# Altium footprint library pcb-libs.PcbLib: 29 footprints (part 1 of 2)
Each footprint in its own frame and in the unit in brackets; x right, y up, seen from the top. Pads: shape width x height; smd on the part's side, far side on the other; paste and mask are expansions set on the pad; w line width, h text height; cw(c..) or ccw(c..) is an arc to the next point about the centre after c.
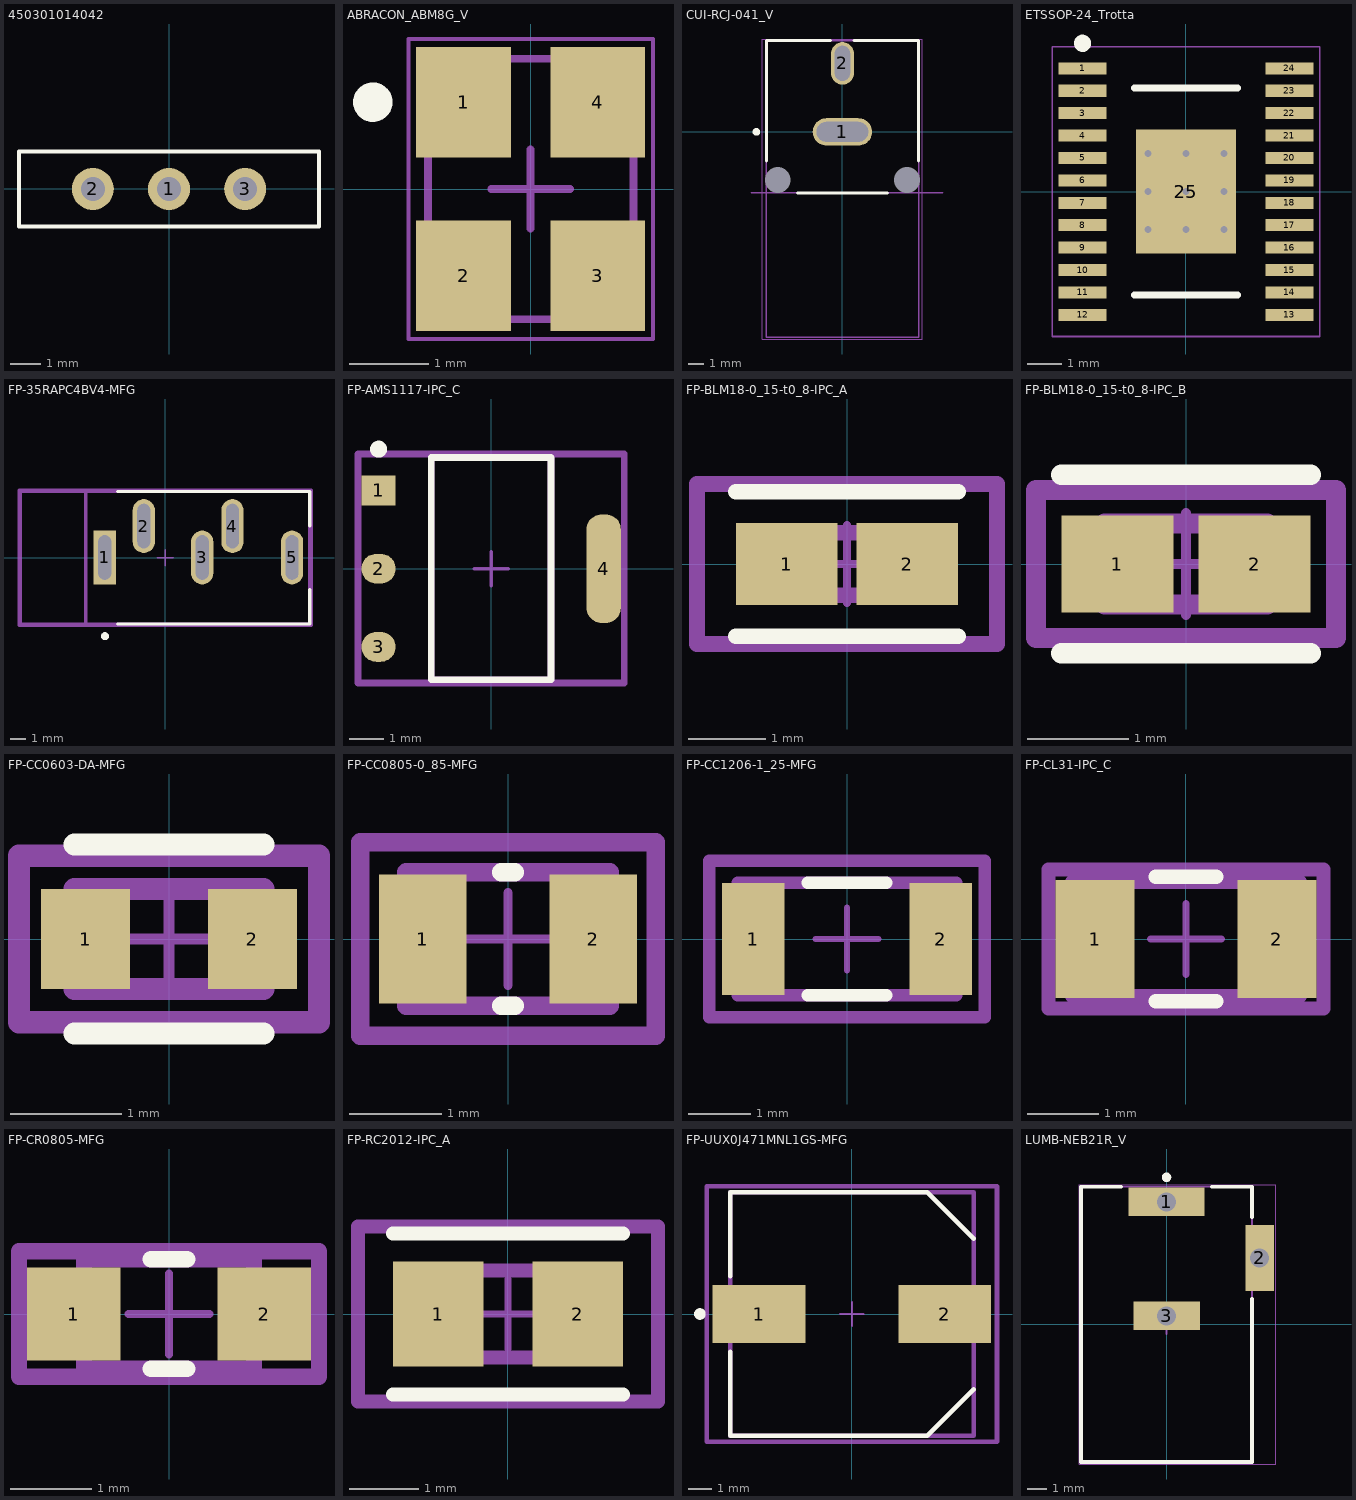
[diagram p0: the footprints below, top view; thin cyan lines are the x and y axes]

## 450301014042 [mm] "10mm*2.5mm. SPDT, ON-ON, 2.54mm, horizontal type, THT, bulk"
height 6.4
pads (3):
  round 1.4 hole 0.8: 1(0,0) 2(-2.54,0) 3(2.54,0)
Top Overlay:
  lines w0.127: -5,-1.25 -5,1.25 ; -5,-1.25 5,-1.25 ; -5,-1.25 -5,1.25 ; -5,-1.25 5,-1.25 ; -5,1.25 5,1.25 ; -5,1.25 5,1.25 ; 5,-1.25 5,1.25 ; 5,-1.25 5,1.25
3D body "450301014042.stp": height 6.4, standoff -5, extent -5,-1.25 5,1.25

## ABRACON_ABM8G_V [mm] "SMD, 4-Leads, Body 2.6x3.3mm"
height 1
pads (4):
  rect 1.2x1.4 smd: 1(-0.85,1.1) 2(-0.85,-1.1) 3(0.85,-1.1) 4(0.85,1.1)
Top Overlay:
  circle w0.25: c-2,1.1 r0.125
Top Assembly:
  circle w0.1: c-0.728,1.056 r0.261
Mechanical 13:
  lines w0.1: -1.3,-1.65 -1.3,1.65 1.3,1.65 1.3,-1.65 -1.3,-1.65
Mechanical 15:
  lines w0.05: -1.55,-1.9 1.55,-1.9 1.55,1.9 -1.55,1.9 -1.55,-1.9
  lines w0.1: -0.5,0 0.5,0 ; 0,-0.5 0,0.5
3D body: height 1, standoff 0, extent -1.299,-1.649 1.299,1.649
3D body: height 1.01, standoff 1, extent -0.98,0.919 -0.581,1.318

## CUI-RCJ-041_V [mm] "Jack, 2-Leads, Body 19.5x10mm"
height 11.724
pads (4):
  oval 3.9x1.8 hole 1.3 slot 3.4 at 0 deg: 1(0,0)
  oval 1.5x2.8 hole 1 slot 2.3 at 90 deg: 2(0,4.5)
  round 0 hole 1.7 square unplated: MH1(-4.25,-3.15) MH2(4.25,-3.15)
Top Overlay:
  circle w0.25: c-5.65,0 r0.125
  lines w0.2: -5,-1.9 -5,6 -0.775,6 ; -2.95,-4 2.95,-4 ; 0.775,6 5,6 5,-1.9
Mechanical 1:
  lines w0.1: -6,-4 6.6,-4
  text "PCB Edge" at 6,-3.8 h0.6
Mechanical 13:
  lines w0.1: -5,-13.5 -5,6 5,6 5,-13.5 -5,-13.5
Mechanical 15:
  lines w0.05: -5.25,-13.6 -5.25,6.1 5.25,6.1 5.25,-13.6 -5.25,-13.6
  lines w0.1: -0.5,0 0.5,0 ; 0,-0.5 0,0.5
3D body "rcj-041.stp": height 11.51, standoff -3.98, extent -5,-13.5 5,6

## ETSSOP-24_Trotta [mm]
height 1.1
pads (25):
  rect 1.4x0.35 smd: 1(-3,3.575) 2(-3,2.925) 3(-3,2.275) 4(-3,1.625) 5(-3,0.975) 6(-3,0.325) 7(-3,-0.325) 8(-3,-0.975) 9(-3,-1.625) 10(-3,-2.275) 11(-3,-2.925) 12(-3,-3.575) 13(3,-3.575) 14(3,-2.925) 15(3,-2.275) 16(3,-1.625) 17(3,-0.975) 18(3,-0.325) 19(3,0.325) 20(3,0.975) 21(3,1.625) 22(3,2.275) 23(3,2.925) 24(3,3.575)
  rect 2.9x3.6 smd: 25(0,0)
via 1.1,-1.1 diameter 0.5 hole 0.2
via 0,-1.1 diameter 0.5 hole 0.2
via -1.1,-1.1 diameter 0.5 hole 0.2
via 1.1,0 diameter 0.5 hole 0.2
via 0,0 diameter 0.5 hole 0.2
via -1.1,0 diameter 0.5 hole 0.2
via 1.1,1.1 diameter 0.5 hole 0.2
via 0,1.1 diameter 0.5 hole 0.2
via -1.1,1.1 diameter 0.5 hole 0.2
Top Overlay:
  circle w0.25: c-3,4.3 r0.125
  lines w0.2: -1.5,-3 1.5,-3 ; -1.5,3 1.5,3
Mechanical 15:
  lines w0.05: -3.875,-4.2 3.875,-4.2 3.875,4.2 -3.875,4.2 -3.875,-4.2
  lines w0.1: -0.5,0 0.5,0 ; 0,-0.5 0,0.5
3D body "User Library-AD8400 TSSOP.step": height 1.15, standoff -0.03, extent -3.204,-3.95 3.203,3.94

## FP-35RAPC4BV4-MFG [mm]
pads (5):
  rect 1.4x3.4 hole 2.8 slot 0.8 at 0 deg paste-1000 mask+0: 1(-3.81,0.013)
  rrect100% 1.4x3.4 hole 2.8 slot 0.8 at 0 deg paste-1000 mask+0: 2(-1.346,1.994) 3(2.337,0.013) 4(4.242,1.994) 5(8.001,0.013)
Top Overlay:
  circle w0.25: c-3.8,-4.95 r0.125
  lines w0.2: -3,-4.178 9.119,-4.178 9.119,-2 ; -3,4.178 9.119,4.178 9.119,2
Top 3D Body:
  lines w0.2: -5.004,-4.278 -5.004,4.278 ; -9.119,-4.178 -9.119,4.178 9.119,4.178 9.119,-4.178 -9.119,-4.178
Top Courtyard:
  lines w0.2: -9.219,-4.278 -9.219,4.278 9.219,4.278 9.219,-4.278 -9.219,-4.278
Top Assembly:
  lines w0.2: -9.219,-4.278 -9.219,4.278 9.219,4.278 9.219,-4.278 -9.219,-4.278
  text ".Designator" at 0,0.188 h1
Top Component Center:
  lines w0.1: -0.5,0 0.5,0 ; 0,-0.5 0,0.5
3D body "Conn_Switchcraft_35RAPC4BV4_eec.STEP": height 0.25, standoff 0, extent -9.219,-4.278 9.219,4.278

## FP-AMS1117-IPC_C [mm]
pads (4):
  rect 1.004x0.872 smd paste+0 mask+0: 1(-3.295,2.29)
  rrect100% 1.004x0.872 smd paste+0 mask+0: 2(-3.295,0) 3(-3.295,-2.29)
  rrect87% 1.004x3.182 smd paste+0 mask+0: 4(3.295,0)
Top Overlay:
  circle w0.25: c-3.295,3.5 r0.125
  lines w0.2: -1.753,-3.253 -1.753,3.253 1.753,3.253 1.753,-3.253 -1.753,-3.253
Top 3D Body:
  lines w0.2: -1.753,-3.253 -1.753,3.253 1.753,3.253 1.753,-3.253 -1.753,-3.253
Top Courtyard:
  lines w0.2: -3.897,-3.353 -3.897,3.353 3.897,3.353 3.897,-3.353 -3.897,-3.353
Top Assembly:
  lines w0.2: -3.897,-3.353 -3.897,3.353 3.897,3.353 3.897,-3.353 -3.897,-3.353
  text ".Designator" at 0,0.188 h1
Top Component Center:
  lines w0.1: -0.5,0 0.5,0 ; 0,-0.5 0,0.5
3D body "IC_Advanced_Monolithic_Systems_AMS1117-3_3_eec.STEP": height 0.25, standoff 0, extent -3.897,-3.353 3.897,3.353

## FP-BLM18-0_15-t0_8-IPC_A [mm]
pads (2):
  rect 1.306x1.058 smd paste+0 mask+0: 1(-0.776,0) 2(0.776,0)
Top Overlay:
  lines w0.2: -1.429,-0.929 1.429,-0.929 ; -1.429,0.929 1.429,0.929
Top 3D Body:
  lines w0.2: -0.8,-0.4 -0.8,0.4 0.8,0.4 0.8,-0.4 -0.8,-0.4
Top Courtyard:
  lines w0.2: -1.929,-1.029 -1.929,1.029 1.929,1.029 1.929,-1.029 -1.929,-1.029
Top Assembly:
  lines w0.2: -1.929,-1.029 -1.929,1.029 1.929,1.029 1.929,-1.029 -1.929,-1.029
  text ".Designator" at 0,0.188 h1
Top Component Center:
  lines w0.1: -0.5,0 0.5,0 ; 0,-0.5 0,0.5
3D body "FBead_Murata_BLM18EG221SN1D_eec.STEP": height 0.25, standoff 0, extent -1.929,-1.029 1.929,1.029

## FP-BLM18-0_15-t0_8-IPC_B [mm]
pads (2):
  rect 1.106x0.958 smd paste+0 mask+0: 1(-0.676,0) 2(0.676,0)
Top Overlay:
  lines w0.2: -1.229,-0.879 1.229,-0.879 ; -1.229,0.879 1.229,0.879
Top 3D Body:
  lines w0.2: -0.8,-0.4 -0.8,0.4 0.8,0.4 0.8,-0.4 -0.8,-0.4
Top Courtyard:
  lines w0.2: -1.479,-0.729 -1.479,0.729 1.479,0.729 1.479,-0.729 -1.479,-0.729
Top Assembly:
  lines w0.2: -1.479,-0.729 -1.479,0.729 1.479,0.729 1.479,-0.729 -1.479,-0.729
  text ".Designator" at 0,0.188 h1
Top Component Center:
  lines w0.1: -0.5,0 0.5,0 ; 0,-0.5 0,0.5
3D body "FBead_Murata_BLM18EG221SN1D_eec.STEP": height 0.25, standoff 0, extent -1.479,-0.729 1.479,0.729

## FP-CC0603-DA-MFG [mm]
pads (2):
  rect 0.8x0.9 smd paste+0 mask+0: 1(-0.75,0) 2(0.75,0)
Top Overlay:
  lines w0.2: -0.85,-0.85 0.85,-0.85 ; -0.85,0.85 0.85,0.85
Top 3D Body:
  lines w0.2: -0.85,-0.45 -0.85,0.45 0.85,0.45 0.85,-0.45 -0.85,-0.45
Top Courtyard:
  lines w0.2: -1.35,-0.75 -1.35,0.75 1.35,0.75 1.35,-0.75 -1.35,-0.75
Top Assembly:
  lines w0.2: -1.35,-0.75 -1.35,0.75 1.35,0.75 1.35,-0.75 -1.35,-0.75
  text ".Designator" at 0,0.188 h1
Top Component Center:
  lines w0.1: -0.5,0 0.5,0 ; 0,-0.5 0,0.5
3D body "Cap_YAGEO_CC0603KRX7R9BB271_eec.STEP": height 0.25, standoff 0, extent -1.35,-0.75 1.35,0.75

## FP-CC0805-0_85-MFG [mm]
pads (2):
  rect 0.95x1.4 smd paste+0 mask+0: 1(-0.925,0) 2(0.925,0)
Top Overlay:
  lines w0.2: -0.075,-0.725 0.075,-0.725 ; -0.075,0.725 0.075,0.725
Top 3D Body:
  lines w0.2: -1.1,-0.725 -1.1,0.725 1.1,0.725 1.1,-0.725 -1.1,-0.725
Top Courtyard:
  lines w0.2: -1.6,-1.05 -1.6,1.05 1.6,1.05 1.6,-1.05 -1.6,-1.05
Top Assembly:
  lines w0.2: -1.6,-1.05 -1.6,1.05 1.6,1.05 1.6,-1.05 -1.6,-1.05
  text ".Designator" at 0,0.188 h1
Top Component Center:
  lines w0.1: -0.5,0 0.5,0 ; 0,-0.5 0,0.5
3D body "Cap_Yageo_CC0805KKX7R7BB105_eec.STEP": height 0.25, standoff 0, extent -1.6,-1.05 1.6,1.05

## FP-CC1206-1_25-MFG [mm]
pads (2):
  rect 1x1.8 smd paste+0 mask+0: 1(-1.5,0) 2(1.5,0)
Top Overlay:
  lines w0.2: -0.625,-0.9 0.625,-0.9 ; -0.625,0.9 0.625,0.9
Top 3D Body:
  lines w0.2: -1.75,-0.9 -1.75,0.9 1.75,0.9 1.75,-0.9 -1.75,-0.9
Top Courtyard:
  lines w0.2: -2.2,-1.25 -2.2,1.25 2.2,1.25 2.2,-1.25 -2.2,-1.25
Top Assembly:
  lines w0.2: -2.2,-1.25 -2.2,1.25 2.2,1.25 2.2,-1.25 -2.2,-1.25
  text ".Designator" at 0,0.188 h1
Top Component Center:
  lines w0.1: -0.5,0 0.5,0 ; 0,-0.5 0,0.5
3D body "Cap_Yageo_CC1206KKX7R8BB105_eec.STEP": height 0.25, standoff 0, extent -2.2,-1.25 2.2,1.25

## FP-CL31-IPC_C [mm]
pads (2):
  rect 1.105x1.658 smd paste+0 mask+0: 1(-1.276,0) 2(1.276,0)
Top Overlay:
  lines w0.2: -0.424,-0.875 0.424,-0.875 ; -0.424,0.875 0.424,0.875
Top 3D Body:
  lines w0.2: -1.6,-0.8 -1.6,0.8 1.6,0.8 1.6,-0.8 -1.6,-0.8
Top Courtyard:
  lines w0.2: -1.929,-0.975 -1.929,0.975 1.929,0.975 1.929,-0.975 -1.929,-0.975
Top Assembly:
  lines w0.2: -1.929,-0.975 -1.929,0.975 1.929,0.975 1.929,-0.975 -1.929,-0.975
  text ".Designator" at 0,0.188 h1
Top Component Center:
  lines w0.1: -0.5,0 0.5,0 ; 0,-0.5 0,0.5
3D body "Cap_Samsung_CL31B105KOFNNNE_eec.STEP": height 0.25, standoff 0, extent -1.929,-0.975 1.929,0.975

## FP-CR0805-MFG [mm]
pads (2):
  rect 1.15x1.15 smd paste+0 mask+0: 1(-1.175,0) 2(1.175,0)
Top Overlay:
  lines w0.2: -0.225,-0.675 0.225,-0.675 ; -0.225,0.675 0.225,0.675
Top 3D Body:
  lines w0.2: -1.05,-0.675 -1.05,0.675 1.05,0.675 1.05,-0.675 -1.05,-0.675
Top Courtyard:
  lines w0.2: -1.85,-0.775 -1.85,0.775 1.85,0.775 1.85,-0.775 -1.85,-0.775
Top Assembly:
  lines w0.2: -1.85,-0.775 -1.85,0.775 1.85,0.775 1.85,-0.775 -1.85,-0.775
  text ".Designator" at 0,0.188 h1
Top Component Center:
  lines w0.1: -0.5,0 0.5,0 ; 0,-0.5 0,0.5
3D body "Res_Bourns_CR0805AFW-22R1EAS_eec.STEP": height 0.25, standoff 0, extent -1.85,-0.775 1.85,0.775

## FP-RC2012-IPC_A [mm]
pads (2):
  rect 1.305x1.508 smd paste+0 mask+0: 1(-1.001,0) 2(1.001,0)
Top Overlay:
  lines w0.2: -1.653,-1.154 1.653,-1.154 ; -1.653,1.154 1.653,1.154
Top 3D Body:
  lines w0.2: -1,-0.625 -1,0.625 1,0.625 1,-0.625 -1,-0.625
Top Courtyard:
  lines w0.2: -2.153,-1.254 -2.153,1.254 2.153,1.254 2.153,-1.254 -2.153,-1.254
Top Assembly:
  lines w0.2: -2.153,-1.254 -2.153,1.254 2.153,1.254 2.153,-1.254 -2.153,-1.254
  text ".Designator" at 0,0.188 h1
Top Component Center:
  lines w0.1: -0.5,0 0.5,0 ; 0,-0.5 0,0.5
3D body "Res_Samsung_RC2012F333CS_eec.STEP": height 0.25, standoff 0, extent -2.153,-1.254 2.153,1.254

## FP-UUX0J471MNL1GS-MFG [mm]
pads (2):
  rect 4x2.5 smd paste+0 mask+0: 1(-4,0) 2(4,0)
Top Overlay:
  circle w0.25: c-6.55,0 r0.125
  lines w0.2: -5.25,-1.625 -5.25,-5.25 3.25,-5.25 5.25,-3.25 ; -5.25,1.625 -5.25,5.25 3.25,5.25 5.25,3.25
Top 3D Body:
  lines w0.2: -5.25,-5.25 5.25,-5.25 5.25,5.25 -5.25,5.25 -5.25,-5.25
Top Courtyard:
  lines w0.2: -6.25,-5.5 6.25,-5.5 6.25,5.5 -6.25,5.5 -6.25,-5.5
Top Assembly:
  lines w0.2: -6.25,-5.5 6.25,-5.5 6.25,5.5 -6.25,5.5 -6.25,-5.5
  text ".Designator" at 0,0.188 h1
Top Component Center:
  lines w0.1: -0.5,0 0.5,0 ; 0,-0.5 0,0.5
3D body "Cap_Nichicon_UUX0J471MNL1GS_eec.STEP": height 0.25, standoff 0, extent -6.25,-5.5 6.25,5.5

## LUMB-NEB21R_V [mm] "THD, 3-Leads, Body 14.5x9mm"
height 11
pads (3):
  rect 4x1.5 hole 1 square: 1(0,6.45)
  rect 1.5x3.5 hole 1 square: 2(4.9,3.5)
  rect 3.5x1.5 hole 1 square: 3(0,0.45)
Top Overlay:
  circle w0.25: c0,7.75 r0.125
  lines w0.2: -2.4,7.25 -4.5,7.25 -4.5,-7.25 4.5,-7.25 4.5,1.35 ; 2.4,7.25 4.5,7.25 4.5,5.65
Mechanical 13:
  lines w0.1: -4.5,-7.25 4.5,-7.25 4.5,7.25 -4.5,7.25 -4.5,-7.25
Mechanical 15:
  lines w0.05: -4.6,-7.35 5.75,-7.35 5.75,7.35 -4.6,7.35 -4.6,-7.35
  lines w0.1: -0.5,0 0.5,0 ; 0,-0.5 0,0.5
3D body "User Library-NEB21R.STEP": height 11, standoff -3.5, extent -4.5,-7.25 5.2,7.25